# Altium schematic symbol library FOD3182.SchLib: 1 symbol
Pins are listed as number, name and electrical type; pins without a type are passive.

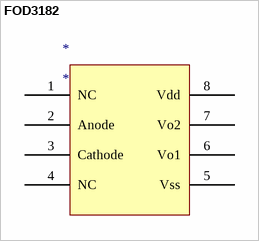
[diagram p0: symbol FOD3182]

## FOD3182
designator *
footprint SOP254P820X175-8N (SOP, 8-Leads, Body 9,66x6,60mm, Pitch 2,54mm, IPC Medium Density)
pins: 1 NC, 2 Anode, 3 Cathode, 4 NC, 5 Vss, 6 Vo1, 7 Vo2, 8 Vdd